# Altium footprint library SIP3.PcbLib: 2 footprints
Each footprint in its own frame and in the unit in brackets; x right, y up, seen from the top. Pads: shape width x height; smd on the part's side, far side on the other; paste and mask are expansions set on the pad; w line width, h text height; cw(c..) or ccw(c..) is an arc to the next point about the centre after c.
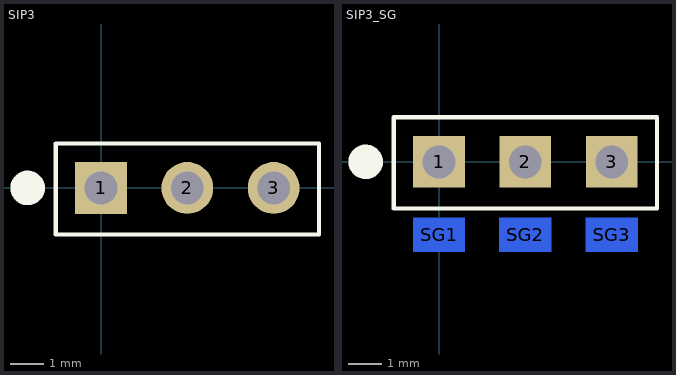
[diagram p0: the footprints below, top view; thin cyan lines are the x and y axes]

## SIP3 [mil]
pads (3):
  rect 60x60 hole 38: 1(0,0)
  round 60 hole 38: 2(100,0) 3(200,0)
Top Overlay:
  circle w20: c-85,0 r10
  lines w5: -52.5,-54 -52.5,51.5 252.5,51.5 252.5,-54 -52.5,-54
3D body "M20-9990345--3DModel-STEP-56544.STEP": height 341.34, standoff -116.93, extent -50,-51.5 250,48.5

## SIP3_SG [mil]
pads (6):
  rect 60x60 hole 38: 1(0,0) 2(100,0) 3(200,0)
  rect 60x39.37 smd far side paste+0: SG1(0,-84.4) SG2(100,-84.4) SG3(200,-84.4)
Top Overlay:
  circle w20: c-85,0 r10
  lines w5: -52.5,-54 -52.5,51.5 252.5,51.5 252.5,-54 -52.5,-54
3D body "M20-9990345--3DModel-STEP-56544.STEP": height 341.34, standoff -116.93, extent -50,-51.5 250,48.5